# Altium integrated library Sim800-EC200U.IntLib: 8 symbols
Pins are listed as number, name and electrical type; pins without a type are passive.

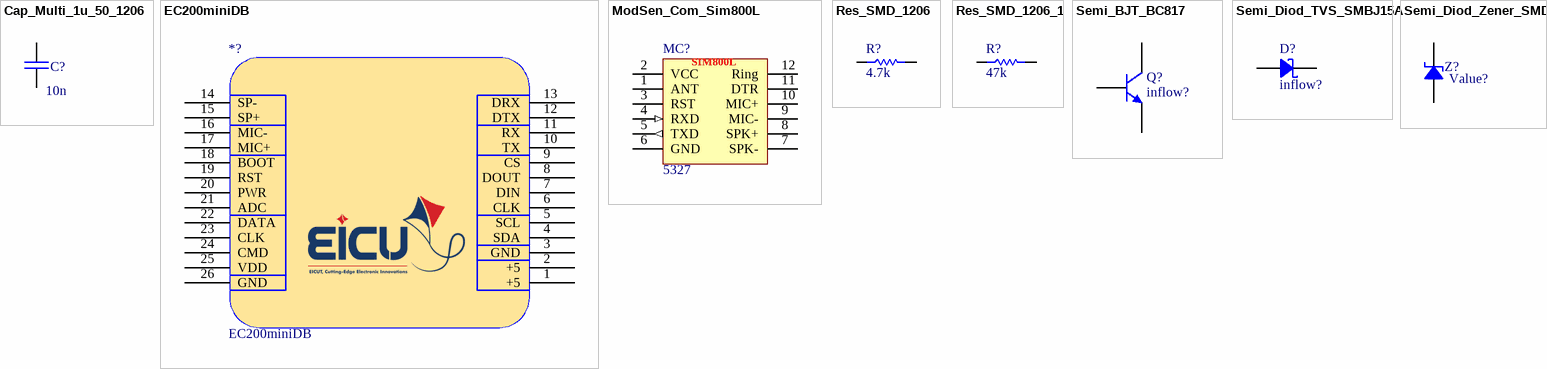
[diagram p0: symbols Cap_Multi_1u_50_1206 to Semi_Diod_Zener_SMD]

## Cap_Multi_1u_50_1206
designator C?, comment 10n
Bipolar ceramic capacitor SMD; Rating: Rating?; Type: Type?; Validation: Valid; Inflow: 5237; Package: Package?; Value: 10n
footprint CAP 1206/3216 (Chip Capacitor, 2-Leads, Body 3.25x1.60mm, IPC Medium Density)
pins: 1, 2

## EC200miniDB
designator *?
EICUT.com
footprint EC200mini
footprint EC200mini - NO3D
pins: 1 +5, 2 +5, 3 GND, 4 SDA, 5 SCL, 6 CLK, 7 DIN, 8 DOUT, 9 CS, 10 TX, 11 RX, 12 DTX, 13 DRX, 14 SP-, 15 SP+, 16 MIC-, 17 MIC+, 18 BOOT, 19 RST, 20 PWR, 21 ADC, 22 DATA, 23 CLK, 24 CMD, 25 VDD, 26 GND

## ModSen_Com_Sim800L
designator MC?, comment Inflow: 5327  (hidden comment: Sim800L)
SimCom GSM/GPRS Module; Rating: Rating?; Validation: NT; Value: Sim800L; Package: Dip; Type: GSM-GPRS
footprint Sim800L_Module (GSM/GPRS Module 25x23/6mm)
footprint Sim800L_Module - NO3D (GSM/GPRS Module 25x23/6mm)
pins: 1 ANT, 2 VCC (power), 3 RST, 4 RXD (in), 5 TXD (out), 6 GND (power), 7 SPK-, 8 SPK+, 9 MIC-, 10 MIC+, 11 DTR, 12 Ring
text: SIM800L

## Res_SMD_1206
designator R?, comment 4.7k
Resistor; Inflow: inflow?; Rating: 0.25W; Validation: Valid; Package: 1206; Type: 10%; Value: 4.7k
footprint RES 1206 (3216X08L) (Chip Resistor, 2-Leads, Body 3.2x1.6mm, IPC High Density _ (0.125 W))
pins: 1, 2

## Res_SMD_1206_1
designator R?, comment 47k
Resistor; Inflow: inflow?; Rating: 0.25W; Validation: Valid; Package: 1206; Type: 10%; Value: 47k
footprint RES 1206 (3216X08L) (Chip Resistor, 2-Leads, Body 3.2x1.6mm, IPC High Density _ (0.125 W))
pins: 1, 2

## Semi_BJT_BC817
designator Q?, comment Inflow: inflow?  (hidden comment: NPN)
NPN General purpose Transistor; Rating: Rating?; Type: Type?; Validation: Valid; Value: NPN; Package: Package?
footprint SOT23_N (SOT23, 3-Leads, Body 2.9x1.3mm, Pitch 0.95mm, Lead Span 2.3mm, IPC Medium Density)
footprint SOT23_L (SOT23, 3-Leads, Body 2.9x1.3mm, Pitch 0.95mm, Lead Span 2.3mm, IPC High Density)
footprint SOT23_M (SOT23, 3-Leads, Body 2.9x1.3mm, Pitch 0.95mm, Lead Span 2.3mm, IPC Low Density)
pins: 1 B, 2 E, 3 C

## Semi_Diod_TVS_SMBJ15A
designator D?, comment Inflow: inflow?  (hidden comment: SMBJ15A)
Transil diodes provide high overvoltage protection by clamping action; Rating: 15V; Type: TVS; Validation: Valid; Value: SMBJ15A; Package: SMB
footprint DO214AA SMB (Molded Diode, 2-Leads, Body 4.31x3.62mm, IPC Medium Density)
pins: 1, 2

## Semi_Diod_Zener_SMD
designator Z?, comment Value?
Zener Diode; Rating: Rating?; Inflow: inflow?; Validation: Valid; Type: Zener; Package: SOD-80; Value: Value?
footprint SOD80, LL-34 (Diode, MiniMELF)
pins: 1, 2